# EAGLE library part CON06 (library con-harting)
CONNECTOR
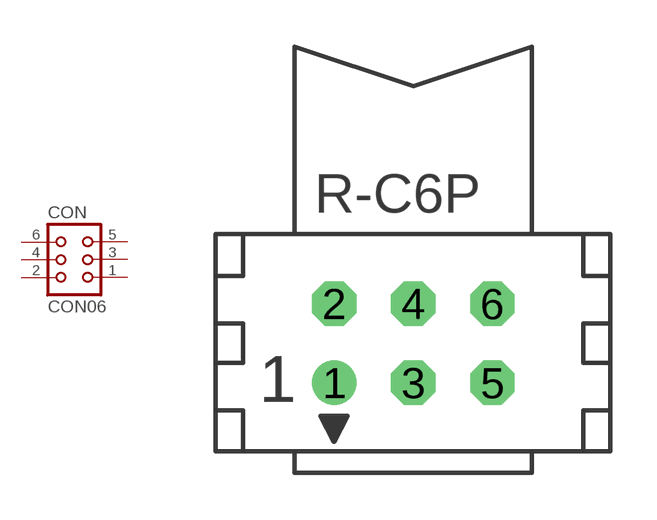
[diagram p0: symbol with the pads of CON06; footprint CON06]

Designator prefix CON

## CON06 (OC_FARNELL: unknown; OC_NEWARK: unknown)  [CON06]
1  1  pas
2  2  pas
3  3  pas
4  4  pas
5  5  pas
6  6  pas

## Footprint CON06 (pad centres in mm)
CONNECTOR
drill 0.914: 1 -2.54,-1.27
drill 0.914 octagon: 2 -2.54,1.27; 3 0,-1.27; 4 0,1.27; 5 2.54,-1.27; 6 2.54,1.27